# EAGLE library part SI705*-A20 (library SENSOR)
HIGH ACCURACY TEMP SENSOR Si7051: ±0.1 °C (max) Si7053: ±0.3 °C (max) Si7054: ±0.4 °C (max) Si7055: ±0.5 °C (max) Si7050: ±1.0 °C (max Si7050/1/3/4/5-A20 <http://www.silabs.com/Support%20Documents/TechnicalDocs/Si7050-1-3-4-5-A20.pdf>
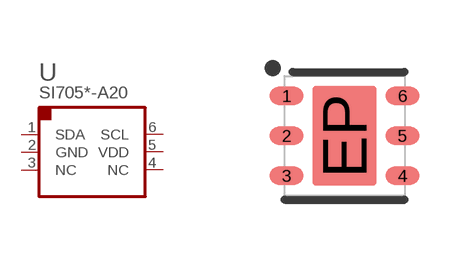
[diagram p5: symbol with the pads of DFN-6-3X3; footprint DFN-6-3X3]

Designator prefix U

## SI7050-A20 (ACCURACY: ±1.0° C), SI7051-A20 (ACCURACY: ±0.1° C; MFPN: SI7051-A20-IM; PARTNO: 16-100088-00), SI7053-A20 (ACCURACY: ±0.3° C), SI7054-A20 (ACCURACY: ±0.4° C), SI7055-A20 (ACCURACY: ±0.5° C)  [DFN-6-3X3]
1  SDA
2  GND  pwr
3  NC  nc
4  NC  nc
5  VDD  pwr
6  SCL  in

## Footprint DFN-6-3X3 (pad centres in mm)
DFN-6 3mmx3mm Designed for: Si7050/1/3/4/5-A20 <http://www.silabs.com/Support%20Documents/TechnicalDocs/Si7050-1-3-4-5-A20.pdf>
smd 0.85 x 0.45: 1 -1.45,1; 2 -1.45,0; 3 -1.45,-1; 4 1.45,-1; 5 1.45,0; 6 1.45,1
smd 1.6 x 2.5: EP 0,0